# EAGLE library part 52?-16 (library con-molex)
0.8mm Board to Board male 16pin connector
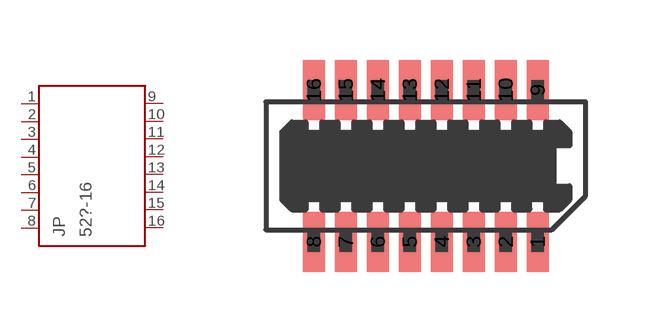
[diagram p17: symbol with the pads of 52465-1629; footprint 52465-1629]

Designator prefix JP

## 52-16  [52465-1629]
1  P$1  pas
2  P$2  pas
3  P$3  pas
4  P$4  pas
5  P$5  pas
6  P$6  pas
7  P$7  pas
8  P$8  pas
9  P$9  pas
10  P$10  pas
11  P$11  pas
12  P$12  pas
13  P$13  pas
14  P$14  pas
15  P$15  pas
16  P$16  pas

## Footprint 52465-1629 (pad centres in mm)
0.8mm Board to Board male 16pin connector
smd 0.55 x 1.5: 1 2.8,-1.9; 2 2,-1.9; 3 1.2,-1.9; 4 0.4,-1.9; 5 -0.4,-1.9; 6 -1.2,-1.9; 7 -2,-1.9; 8 -2.8,-1.9; 9 2.8,1.9; 10 2,1.9; 11 1.2,1.9; 12 0.4,1.9; 13 -0.4,1.9; 14 -1.2,1.9; 15 -2,1.9; 16 -2.8,1.9